# Altium schematic symbol library SchLib_PDB_V1.SCHLIB: 63 symbols
Pins are listed as number, name and electrical type; pins without a type are passive.

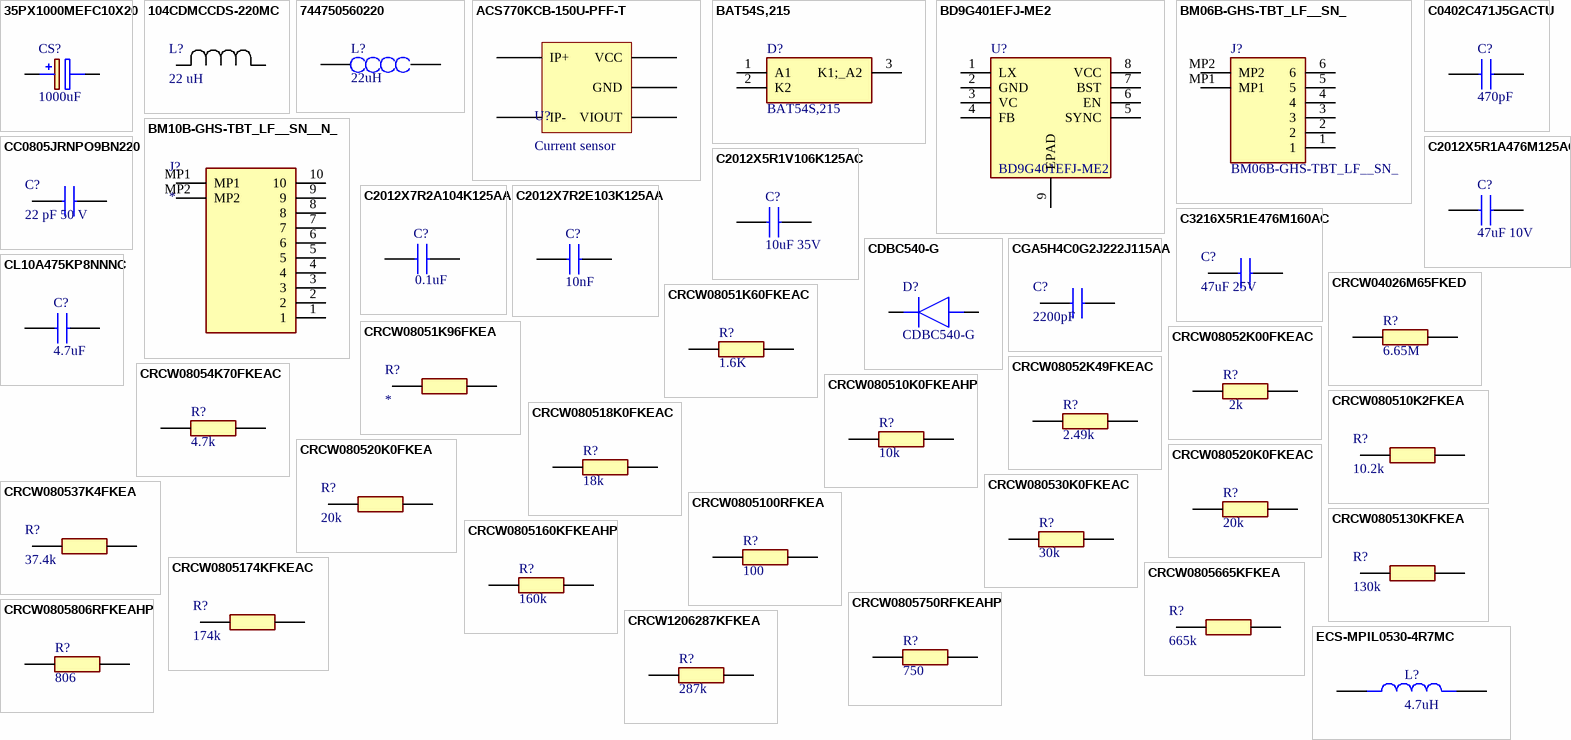
[diagram p0: symbols 35PX1000MEFC10X20 to ECS-MPIL0530-4R7MC]

## 35PX1000MEFC10X20
designator CS?, comment 1000uF
Capacitor Polarised; Manufacturer_Name: Rubycon; Manufacturer_Part_Number: 35PX1000MEFC10X20; Datasheet Link: https://www.rubycon.co.jp/wp-content/uploads/catalog-aluminum/PX.pdf; Height: 21.5mm; Mouser Part Number: 232-35PX1000MEFC10X2; Mouser Price/Stock: https://www.mouser.co.uk/ProductDetail/Rubycon/35PX1000MEFC10X20?qs=T3oQrply3y86%2F1qnNfO%252BAA%3D%3D; Arrow Part Number: 35PX1000MEFC10X20; Arrow Price/Stock: https://www.arrow.com/en/products/35px1000mefc10x20/rubycon?region=nac
footprint CAPPRD500W60D1025H2150
pins: 1 +, 2 -

## 104CDMCCDS-220MC
designator L?, comment 22 uH
Bobine de 22 uH, 5 A; Manufacturer_Name: Sumida; Manufacturer_Part_Number: 104CDMCCDS-220MC; Type: Fixed Inductors; Copyright: Copyright (C) 2025 Ultra Librarian. All rights reserved.; ComponentLink1Description: Datasheet; ComponentLink1URL: https://products.sumida.com/products/pdf/104CDMCCDS.pdf
footprint IND_104CDMCCDS_SUM
pins: 1, 2

## 744750560220
designator L?, comment 22uH
Inductor 22mH; Manufacturer_Name: Wurth Elektronik; Manufacturer_Part_Number: 744750560220; Datasheet Link: https://componentsearchengine.com/Datasheets/2/744750560220.pdf; Height: 15.8mm; Mouser Part Number: 710-744750560220; Mouser Price/Stock: https://www.mouser.co.uk/ProductDetail/Wurth-Elektronik/744750560220?qs=HXx4m3XcTe10itAwD7FiZQ%3D%3D; ClassName: PowerModul
footprint 744750560220
pins: 1, 2

## ACS770KCB-150U-PFF-T
designator U?, comment Current sensor
150 A , Unidirectional; ComponentLink1Description: Datasheet; ComponentLink1URL: https://www.allegromicro.com/~/media/Files/Datasheets/ACS770-Datasheet.ashx
footprint Model Name (Footprint not found)
footprint ACS770xCB-PFF - Sans Via-in-Pad (Current sensor)
pins: 1 VCC, 2 GND, 3 VIOUT, 4 IP+, 5 IP-

## BAT54S,215
designator D?
Schottky Diode; Manufacturer_Name: Nexperia; Datasheet Link: https://assets.nexperia.com/documents/data-sheet/BAT54S.pdf; Height: 1.1mm; Manufacturer_Part_Number: BAT54S,215; Mouser Part Number: 771-BAT54S-T/R; Mouser Price/Stock: https://www.mouser.co.uk/ProductDetail/Nexperia/BAT54S215?qs=me8TqzrmIYVOaf3j7zH0Wg%3D%3D; Arrow Part Number: BAT54S,215; Arrow Price/Stock: https://www.arrow.com/en/products/bat54s215/nexperia?utm_currency=USD&region=europe
footprint SOT95P230X110-3N
pins: 1 A1, 2 K2, 3 K1;_A2

## BD9G401EFJ-ME2
designator U?
Buck converter; Manufacturer_Name: ROHM Semiconductor; Datasheet Link: https://componentsearchengine.com/Datasheets/1/BD9G401EFJ-ME2.pdf; Height: 1mm; Manufacturer_Part_Number: BD9G401EFJ-ME2; Mouser Part Number: 755-BD9G401EFJ-ME2; Mouser Price/Stock: https://www.mouser.co.uk/ProductDetail/ROHM-Semiconductor/BD9G401EFJ-ME2?qs=HXFqYaX1Q2yXryPBxafgDg%3D%3D; ClassName: PowerModul
footprint SOIC127P600X100-9N
pins: 1 LX, 2 GND, 3 VC, 4 FB, 5 SYNC, 6 EN, 7 BST, 8 VCC, 9 EPAD

## BM06B-GHS-TBT_LF__SN_
designator J?
Connector; Manufacturer_Name: JST (JAPAN SOLDERLESS TERMINALS); Manufacturer_Part_Number: BM06B-GHS-TBT(LF)(SN); Datasheet Link: https://datasheet.lcsc.com/szlcsc/2004111131_JST-Sales-America-BM06B-GHS-TBT-LF-SN_C495534.pdf; Height: 4.05mm; Mouser Part Number: 306-BM06BGHSTBTLFSNN; Mouser Price/Stock: https://www.mouser.co.uk/ProductDetail/JST-Commercial/BM06B-GHS-TBTLFSN?qs=cdbOS8ANM9CObKjnhD04mw%3D%3D
footprint BM06BGHSTBTLFSN
pins: 1, 2, 3, 4, 5, 6, MP1, MP2

## BM10B-GHS-TBT_LF__SN__N_
designator J?
Connector; Manufacturer_Name: JST (JAPAN SOLDERLESS TERMINALS); Manufacturer_Part_Number: BM10B-GHS-TBT(LF)(SN)(N); Datasheet Link: http://www.jst-mfg.com/product/pdf/eng/eGH.pdf; Height: 4.05mm; Arrow Part Number: BM10B-GHS-TBT(LF)(SN)(N); Arrow Price/Stock: https://www.arrow.com/en/products/bm10b-ghs-tbt-lf-sn-n/jst-manufacturing?utm_currency=USD&region=europe
footprint BM10BGHSTBTLFSNN
pins: 1, 2, 3, 4, 5, 6, 7, 8, 9, 10, MP1, MP2

## C0402C471J5GACTU
designator C?, comment 470pF
Capacitor; Manufacturer_Name: KEMET; Manufacturer_Part_Number: C0402C471J5GACTU; Datasheet Link: https://content.kemet.com/datasheets/KEM_C1002_X7R_SMD.pdf; Height: 0.55mm; Mouser Part Number: 80-C0402C471J5G; Mouser Price/Stock: https://www.mouser.com/Search/Refine.aspx?Keyword=80-C0402C471J5G; Arrow Part Number: C0402C471J5GACTU; Arrow Price/Stock: https://www.arrow.com/en/products/c0402c471j5gactu/kemet-corporation
footprint C0402C104J4RACTU
pins: 1, 2

## C2012X5R1A476M125AC
designator C?, comment 47uF 10V
Capacitor; Manufacturer_Name: TDK; Manufacturer_Part_Number: C2012X5R1A476M125AC; Datasheet Link: https://product.tdk.com/info/en/catalog/datasheets/mlcc_commercial_midvoltage_en.pdf; Height: 1.45mm; Mouser Part Number: 810-C2012X5R1A476M; Mouser Price/Stock: https://www.mouser.co.uk/ProductDetail/TDK/C2012X5R1A476M125AC?qs=LcTL%2F5vFEzGyFw5hxP%2FMXw%3D%3D; Arrow Part Number: C2012X5R1A476M125AC; Arrow Price/Stock: https://www.arrow.com/en/products/c2012x5r1a476m125ac/tdk?region=nac; ClassName: PowerModul
footprint CAPC2012X145N
footprint CAPC2012X145N
pins: 1, 2

## C2012X5R1V106K125AC
designator C?, comment 10uF 35V
Capacitor; Manufacturer_Name: TDK; Manufacturer_Part_Number: C2012X5R1V106K125AC; Datasheet Link: https://product.tdk.com/info/en/catalog/datasheets/mlcc_commercial_midvoltage_en.pdf; Height: 1.45mm; Mouser Part Number: 810-C2012X5R1V106K1C; Mouser Price/Stock: https://www.mouser.co.uk/ProductDetail/TDK/C2012X5R1V106K125AC?qs=6JAMGB%252BEdkwcwonKbQLeCg%3D%3D; Arrow Part Number: C2012X5R1V106K125AC; Arrow Price/Stock: https://www.arrow.com/en/products/c2012x5r1v106k125ac/tdk?region=europe; ClassName: PowerModul
footprint CAPC2012X145N
pins: 1, 2

## C2012X7R2A104K125AA
designator C?, comment 0.1uF
Capacitor; Manufacturer_Name: TDK; Manufacturer_Part_Number: C2012X7R2A104K125AA; Datasheet Link: https://product.tdk.com/info/en/catalog/datasheets/mlcc_commercial_midvoltage_en.pdf; Height: 1.45mm; Mouser Part Number: 810-C2012X7R2A104K; Mouser Price/Stock: https://www.mouser.co.uk/ProductDetail/TDK/C2012X7R2A104K125AA?qs=NRhsANhppD9J0ZsT2%2Fo%2F7Q%3D%3D; Arrow Part Number: C2012X7R2A104K125AA; Arrow Price/Stock: https://www.arrow.com/en/products/c2012x7r2a104k125aa/tdk?region=europe; ClassName: PowerModul
footprint CAPC2012X145N
pins: 1, 2

## C2012X7R2E103K125AA
designator C?, comment 10nF
Capacitor; Manufacturer_Name: TDK; Manufacturer_Part_Number: C2012X7R2E103K125AA; Datasheet Link: https://product.tdk.com/info/en/catalog/datasheets/mlcc_commercial_midvoltage_en.pdf; Height: 1.45mm; Mouser Part Number: 810-C2012X7R2E103K; Mouser Price/Stock: https://www.mouser.co.uk/ProductDetail/TDK/C2012X7R2E103K125AA?qs=NRhsANhppD%2FvPjIeAxskbg%3D%3D; Arrow Part Number: C2012X7R2E103K125AA; Arrow Price/Stock: https://www.arrow.com/en/products/c2012x7r2e103k125aa/tdk?region=nac; ClassName: PowerModul
footprint CAPC2012X145N
pins: 1, 2

## C3216X5R1E476M160AC
designator C?, comment 47uF 25V
Capacitor 47 uF; Manufacturer_Name: TDK; Manufacturer_Part_Number: C3216X5R1E476M160AC.; Datasheet Link: https://media.digikey.com/pdf/Data%20Sheets/TDK%20PDFs/mlcc_commercial_general_Rev2018.pdf; Height: 1.8mm; Mouser Part Number: N/A; Mouser Price/Stock: https://www.mouser.com/Search/Refine.aspx?Keyword=N%2FA
footprint CAPC3216X180N (Footprint not found)
pins: 1, 2

## CC0805JRNPO9BN220
designator C?, comment 22 pF 50 V
Capacitor; Manufacturer_Name: YAGEO; Manufacturer_Part_Number: CC0805JRNPO9BN220; Datasheet Link: https://componentsearchengine.com/Datasheets/2/CC0805JRNPO9BN220.pdf; Height: 0.7mm; Mouser Part Number: 603-CC805JRNPO9BN220; Mouser Price/Stock: https://www.mouser.co.uk/ProductDetail/YAGEO/CC0805JRNPO9BN220?qs=vTakOoo5QyK71b5vkghGmg%3D%3D
footprint CAPC2012X70N (Footprint not found)
pins: 1, 2

## CDBC540-G
designator D?
Diode; Manufacturer_Name: Comchip Technology; Datasheet Link: https://eu.mouser.com/datasheet/2/80/CDBC520-HF_Thru195340._CDBC5100-HF_RevB-1480991.pdf; Height: 2.9mm; Manufacturer_Part_Number: CDBC540-G; Mouser Part Number: 750-CDBC540-G; Mouser Price/Stock: https://www.mouser.co.uk/ProductDetail/Comchip-Technology/CDBC540-G?qs=tw%252BuQ%2FB6PO2ExpPYY64Vzw%3D%3D; Arrow Part Number: CDBC540-G; Arrow Price/Stock: https://www.arrow.com/en/products/cdbc540-g/comchip-technology?utm_currency=USD&region=nac
footprint DIOM8059X290N
pins: 1 K, 2 A

## CGA5H4C0G2J222J115AA
designator C?, comment 2200pF
Capacitor 2200pF 630V; Manufacturer_Name: TDK; Manufacturer_Part_Number: CGA5H4C0G2J222J115AA; Datasheet Link: http://docs-europe.electrocomponents.com/webdocs/14e9/0900766b814e9125.pdf; Height: 1.3mm
footprint CAPC3216X130N
pins: 1, 2

## CL10A475KP8NNNC
designator C?, comment 4.7uF
Capacitor; Manufacturer_Name: SAMSUNG; Manufacturer_Part_Number: CL10A475KP8NNNC; Datasheet Link: https://www.arrow.com/en/products/cl10a475kp8nnnc/samsung-electro-mechanics; Height: 0.9mm; Mouser Part Number: 187-CL10A475KP8NNNC; Mouser Price/Stock: https://www.mouser.co.uk/ProductDetail/Samsung-Electro-Mechanics/CL10A475KP8NNNC?qs=hqM3L16%252BxlfQRmkWsZz5vA%3D%3D; Arrow Part Number: CL10A475KP8NNNC; Arrow Price/Stock: https://www.arrow.com/en/products/cl10a475kp8nnnc/samsung-electro-mechanics?region=nac
footprint CAPC1608X90N
pins: 1, 2

## CRCW04026M65FKED
designator R?, comment 6.65M
Resistor; Manufacturer_Name: Vishay; Manufacturer_Part_Number: CRCW04026M65FKED; Datasheet Link: http://www.vishay.com/docs/20035/dcrcwe3.pdf; Height: 0.4mm
footprint RESC1005X40N
pins: 1, 2

## CRCW08051K60FKEAC
designator R?, comment 1.6K
Resistor; Manufacturer_Name: Vishay; Manufacturer_Part_Number: CRCW08051K60FKEAC; Datasheet Link: https://www.arrow.com/en/products/crcw08051k60fkeac/vishay; Height: 0.6mm; Mouser Part Number: 71-CRCW08051K60FKEAC; Mouser Price/Stock: https://www.mouser.co.uk/ProductDetail/Vishay-Dale/CRCW08051K60FKEAC?qs=E3Y5ESvWgWMJaZYHQus8LQ%3D%3D; Arrow Part Number: CRCW08051K60FKEAC; Arrow Price/Stock: https://www.arrow.com/en/products/crcw08051k60fkeac/vishay
footprint RESC2012X60N
pins: 1, 2

## CRCW08051K96FKEA
designator R?
Resistor; Manufacturer_Name: Vishay; Manufacturer_Part_Number: CRCW08051K96FKEA; Datasheet Link: http://www.vishay.com/docs/20035/dcrcwe3.pdf; Height: 0.5mm; Mouser Part Number: 71-CRCW08051K96FKEA; Mouser Price/Stock: https://www.mouser.co.uk/ProductDetail/Vishay-Dale/CRCW08051K96FKEA?qs=1CkV0QOCgMpA%2F6GTgXIN%2Fg%3D%3D; Arrow Part Number: CRCW08051K96FKEA; Arrow Price/Stock: https://www.arrow.com/en/products/crcw08051k96fkea/vishay?region=nac
footprint RESC2012X50N
pins: 1, 2

## CRCW08052K00FKEAC
designator R?, comment 2k
Resistor; Manufacturer_Name: Vishay; Manufacturer_Part_Number: CRCW08052K00FKEAC; Datasheet Link: http://www.vishay.com/docs/28773/crcwce3.pdf; Height: 0.6mm; Mouser Part Number: 71-CRCW08052K00FKEAC; Mouser Price/Stock: https://www.mouser.co.uk/ProductDetail/Vishay-Dale/CRCW08052K00FKEAC?qs=E3Y5ESvWgWP6floxGsbShA%3D%3D; Arrow Part Number: CRCW08052K00FKEAC; Arrow Price/Stock: https://www.arrow.com/en/products/crcw08052k00fkeac/vishay?utm_currency=USD&region=nac
footprint RESC2012X60N
pins: 1, 2

## CRCW08052K49FKEAC
designator R?, comment 2.49k
Resistor; Manufacturer_Name: Vishay; Manufacturer_Part_Number: CRCW08052K49FKEAC; Datasheet Link: https://componentsearchengine.com/Datasheets/1/CRCW08052K49FKEAC.pdf; Height: 0.5mm; Mouser Part Number: 71-CRCW08052K49FKEAC; Mouser Price/Stock: https://www.mouser.com/Search/Refine.aspx?Keyword=71-CRCW08052K49FKEAC; Arrow Part Number: CRCW08052K49FKEAC; Arrow Price/Stock: https://www.arrow.com/en/products/crcw08052k49fkeac/vishay
footprint RESC2012X50N
pins: 1, 2

## CRCW08054K70FKEAC
designator R?, comment 4.7k
Resistor; Manufacturer_Name: Vishay; Manufacturer_Part_Number: CRCW08054K70FKEAC; Datasheet Link: https://mouser.componentsearchengine.com/Datasheets/1/CRCW08054K70FKEAC.pdf; Height: 0.6mm; Mouser Part Number: 71-CRCW08054K70FKEAC; Mouser Price/Stock: https://www.mouser.co.uk/ProductDetail/Vishay-Dale/CRCW08054K70FKEAC?qs=E3Y5ESvWgWOQAAVugewEHA%3D%3D; Arrow Part Number: CRCW08054K70FKEAC; Arrow Price/Stock: https://www.arrow.com/en/products/crcw08054k70fkeac/vishay?region=nac; ClassName: PowerModul
footprint RESC2012X60N
pins: 1, 2

## CRCW080510K0FKEAHP
designator R?, comment 10k
Resistor; Manufacturer_Name: Vishay; Manufacturer_Part_Number: CRCW080510K0FKEAHP; Datasheet Link: https://componentsearchengine.com/Datasheets/1/CRCW08051R00FKEAHP.pdf; Height: 0.6mm; Mouser Part Number: 71-CRCW080510K0FKEAH; Mouser Price/Stock: https://www.mouser.co.uk/ProductDetail/Vishay-Dale/CRCW080510K0FKEAHP?qs=FlFvgi4rxBybVOW6oiRQjA%3D%3D; Arrow Part Number: CRCW080510K0FKEAHP; Arrow Price/Stock: https://www.arrow.com/en/products/crcw080510k0fkeahp/vishay?utm_currency=USD&region=europe; ClassName: PowerModul
footprint RESC2012X60N
pins: 1, 2

## CRCW080510K2FKEA
designator R?, comment 10.2k
Resistor; Manufacturer_Name: Vishay; Manufacturer_Part_Number: CRCW080510K2FKEA; Datasheet Link: http://www.vishay.com/docs/20035/dcrcwe3.pdf; Height: 0.5mm; Mouser Part Number: 71-CRCW0805-10.2K-E3; Mouser Price/Stock: https://www.mouser.co.uk/ProductDetail/Vishay-Dale/CRCW080510K2FKEA?qs=LOX6nxTstibTXRK16X5NEQ%3D%3D; Arrow Part Number: CRCW080510K2FKEA; Arrow Price/Stock: https://www.arrow.com/en/products/crcw080510k2fkea/vishay?region=nac
footprint RESC2012X50N
pins: 1, 2

## CRCW080518K0FKEAC
designator R?, comment 18k
Resistor; Manufacturer_Name: Vishay; Manufacturer_Part_Number: CRCW080518K0FKEAC; Datasheet Link: https://www.arrow.com/en/products/crcw080518k0fkeac/vishay?region=nac; Height: 0.5mm; Mouser Part Number: 71-CRCW080518K0FKEAC; Mouser Price/Stock: https://www.mouser.co.uk/ProductDetail/Vishay-Dale/CRCW080518K0FKEAC?qs=E3Y5ESvWgWPSwNx6fNHotQ%3D%3D; Arrow Part Number: CRCW080518K0FKEAC; Arrow Price/Stock: https://www.arrow.com/en/products/crcw080518k0fkeac/vishay?region=nac
footprint RESC2012X50N
pins: 1, 2

## CRCW080520K0FKEA
designator R?, comment 20k
Resistor; Manufacturer_Name: Vishay; Manufacturer_Part_Number: CRCW080520K0FKEA; Datasheet Link: http://www.vishay.com/docs/20035/dcrcwe3.pdf; Height: 0.5mm; Mouser Part Number: 71-CRCW0805-20K-E3; Mouser Price/Stock: https://www.mouser.co.uk/ProductDetail/Vishay-Dale/CRCW080520K0FKEA?qs=t6Mf8e9K%2Ful9pWSqXxFD1w%3D%3D; Arrow Part Number: CRCW080520K0FKEA; Arrow Price/Stock: https://www.arrow.com/en/products/crcw080520k0fkea/vishay
footprint RESC2012X50N
pins: 1, 2

## CRCW080520K0FKEAC
designator R?, comment 20k
Resistor; Manufacturer_Name: Vishay; Manufacturer_Part_Number: CRCW080520K0FKEAC; Datasheet Link: https://mouser.componentsearchengine.com/Datasheets/1/CRCW080520K0FKEAC.pdf; Height: 0.6mm; Mouser Part Number: 71-CRCW080520K0FKEAC; Mouser Price/Stock: https://www.mouser.co.uk/ProductDetail/Vishay-Dale/CRCW080520K0FKEAC?qs=E3Y5ESvWgWNXVYIsIc630g%3D%3D; Arrow Part Number: CRCW080520K0FKEAC; Arrow Price/Stock: https://www.arrow.com/en/products/crcw080520k0fkeac/vishay
footprint RESC2012X60N
pins: 1, 2

## CRCW080530K0FKEAC
designator R?, comment 30k
Resistor; Manufacturer_Name: Vishay; Manufacturer_Part_Number: CRCW080530K0FKEAC; Datasheet Link: https://mouser.componentsearchengine.com/Datasheets/1/CRCW080530K0FKEAC.pdf; Height: 0.6mm; Mouser Part Number: 71-CRCW080530K0FKEAC; Mouser Price/Stock: https://www.mouser.co.uk/ProductDetail/Vishay-Dale/CRCW080530K0FKEAC?qs=E3Y5ESvWgWMYq9MgiyaMow%3D%3D; Arrow Part Number: CRCW080530K0FKEAC; Arrow Price/Stock: https://www.arrow.com/en/products/crcw080530k0fkeac/vishay?region=nac; ClassName: PowerModul
footprint RESC2012X60N
pins: 1, 2

## CRCW080537K4FKEA
designator R?, comment 37.4k
Resistor; Manufacturer_Name: Vishay; Manufacturer_Part_Number: CRCW080537K4FKEA; Datasheet Link: http://www.vishay.com/docs/20035/dcrcwe3.pdf; Height: 0.5mm; Mouser Part Number: 71-CRCW0805-37.4K-E3; Mouser Price/Stock: https://www.mouser.co.uk/ProductDetail/Vishay-Dale/CRCW080537K4FKEA?qs=ofC1ORbyWJfwcxfoRR0MKw%3D%3D
footprint RESC2012X50N
pins: 1, 2

## CRCW0805100RFKEA
designator R?, comment 100
Resistor; Manufacturer_Name: Vishay; Manufacturer_Part_Number: CRCW0805100RFKEA; Datasheet Link: http://www.vishay.com/docs/20035/dcrcwe3.pdf; Height: 0.5mm; Mouser Part Number: 71-CRCW0805-100-E3; Mouser Price/Stock: https://www.mouser.co.uk/ProductDetail/Vishay-Dale/CRCW0805100RFKEA?qs=LOX6nxTstiYDPDKmuLyNLw%3D%3D; Arrow Part Number: CRCW0805100RFKEA; Arrow Price/Stock: https://www.arrow.com/en/products/crcw0805100rfkea/vishay?utm_currency=USD&region=nac
footprint RESC2012X50N
pins: 1, 2

## CRCW0805130KFKEA
designator R?, comment 130k
Resistor; Manufacturer_Name: Vishay; Manufacturer_Part_Number: CRCW0805130KFKEA; Datasheet Link: http://www.vishay.com/docs/20035/dcrcwe3.pdf; Height: 0.5mm; Mouser Part Number: 71-CRCW0805-130K-E3; Mouser Price/Stock: https://www.mouser.co.uk/ProductDetail/Vishay-Dale/CRCW0805130KFKEA?qs=0y7Riw94L4iHKWUxGOctIA%3D%3D; Arrow Part Number: CRCW0805130KFKEA; Arrow Price/Stock: https://www.arrow.com/en/products/crcw0805130kfkea/vishay
footprint RESC2012X50N
pins: 1, 2

## CRCW0805160KFKEAHP
designator R?, comment 160k
Resistor; Manufacturer_Name: Vishay; Manufacturer_Part_Number: CRCW0805160KFKEAHP; Datasheet Link: https://componentsearchengine.com/Datasheets/1/CRCW08051R00FKEAHP.pdf; Height: 0.6mm; ClassName: PowerModul
footprint RESC2012X60N
pins: 1, 2

## CRCW0805174KFKEAC
designator R?, comment 174k
Resistor; Manufacturer_Name: Vishay; Manufacturer_Part_Number: CRCW0805174KFKEAC; Datasheet Link: https://www.vishay.com/docs/28773/crcwce3.pdf; Height: 0.6mm; Mouser Part Number: 71-CRCW0805174KFKEAC; Mouser Price/Stock: https://www.mouser.co.uk/ProductDetail/Vishay-Dale/CRCW0805174KFKEAC?qs=E3Y5ESvWgWPIzoNrwC7WHw%3D%3D
footprint RESC2012X60N
pins: 1, 2

## CRCW0805665KFKEA
designator R?, comment 665k
Resistor; Manufacturer_Name: Vishay; Manufacturer_Part_Number: CRCW0805665KFKEA; Datasheet Link: http://www.vishay.com/docs/20035/dcrcwe3.pdf; Height: 0.5mm
footprint RESC2012X50N
pins: 1, 2

## CRCW0805750RFKEAHP
designator R?, comment 750
Resistor; Manufacturer_Name: Vishay; Manufacturer_Part_Number: CRCW0805750RFKEAHP; Datasheet Link: https://componentsearchengine.com/Datasheets/1/CRCW08051R00FKEAHP.pdf; Height: 0.6mm; Mouser Part Number: 71-CRCW0805750RFKEAH; Mouser Price/Stock: https://www.mouser.co.uk/ProductDetail/Vishay-Dale/CRCW0805750RFKEAHP?qs=40TFAHZMFvdp5ouInDDfaw%3D%3D; Arrow Part Number: CRCW0805750RFKEAHP; Arrow Price/Stock: https://www.arrow.com/en/products/crcw0805750rfkeahp/vishay?region=nac
footprint RESC2012X60N
pins: 1, 2

## CRCW0805806RFKEAHP
designator R?, comment 806
Resistor; Manufacturer_Name: Vishay; Manufacturer_Part_Number: CRCW0805806RFKEAHP; Datasheet Link: https://componentsearchengine.com/Datasheets/1/CRCW08051R00FKEAHP.pdf; Height: 0.6mm
footprint RESC2012X60N
pins: 1, 2

## CRCW1206287KFKEA
designator R?, comment 287k
Resistor; Manufacturer_Name: Vishay; Manufacturer_Part_Number: CRCW1206287KFKEA; Height: 0.6mm; Mouser Part Number: 71-CRCW1206-287K-E3; Mouser Price/Stock: https://www.mouser.com/Search/Refine.aspx?Keyword=71-CRCW1206-287K-E3
footprint RESC3216X60N
pins: 1, 2

## ECS-MPIL0530-4R7MC
designator L?, comment 4.7uH
4.7 µH Shielded Molded Inductor 5 A 60mOhm Max Nonstandard -; MF: ECS Inc.; MP: ECS-MPIL0530-4R7MC; SnapEDA_Link: https://www.snapeda.com/parts/ECS-MPIL0530-4R7MC/ECS/view-part/?ref=snap; Package: ECS-MPIL0530-0-2 ECS; Value: *; Check_prices: https://www.snapeda.com/parts/ECS-MPIL0530-4R7MC/ECS/view-part/?ref=eda
footprint IND_ECS-MPIL0530-4R7MC (Footprint not found)
pins: 1, 2

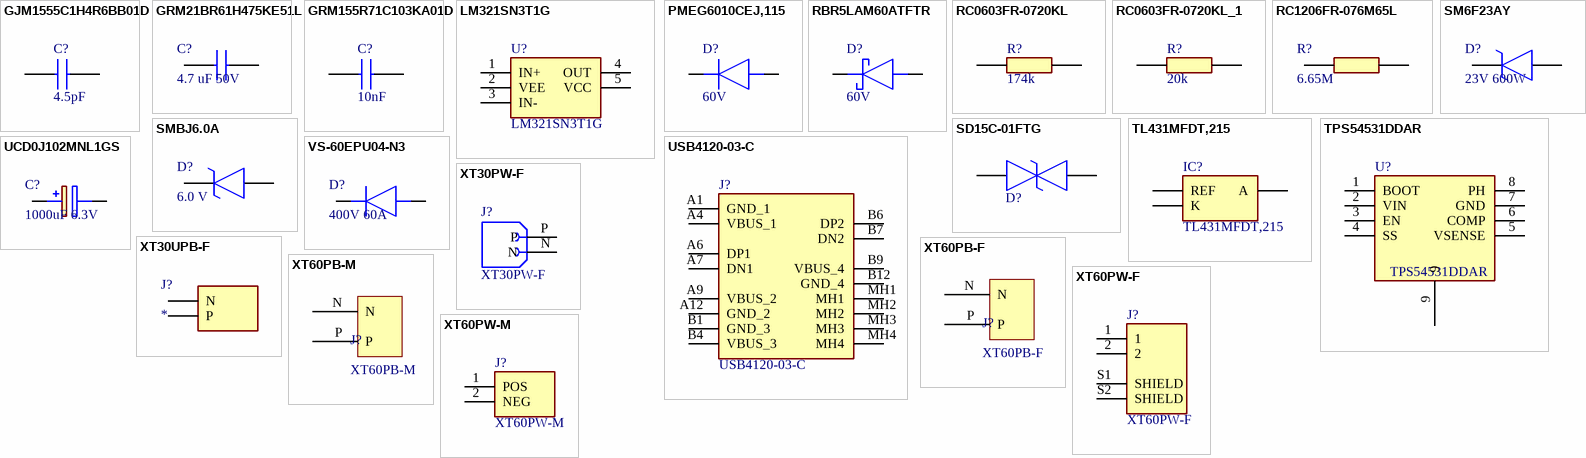
[diagram p1: symbols GJM1555C1H4R6BB01D to XT60PW-M]

## GJM1555C1H4R6BB01D
designator C?, comment 4.5pF
Capacitor; Manufacturer_Name: Murata Electronics; Manufacturer_Part_Number: GJM1555C1H4R6BB01D; Datasheet Link: https://search.murata.co.jp/Ceramy/image/img/A01X/G101/ENG/GJM1555C1H4R6BB01-01A.pdf; Height: 0.55mm
footprint CAPC1005X55N
pins: 1, 2

## GRM21BR61H475KE51L
designator C?, comment 4.7 uF 50V
Capacitor; Manufacturer_Name: Murata Electronics; Manufacturer_Part_Number: GRM21BR61H475KE51L; Datasheet Link: https://search.murata.co.jp/Ceramy/image/img/A01X/G101/ENG/GRM21BR61H475KE51-01A.pdf; Height: 1.45mm; Mouser Part Number: 81-GRM21BR61H475KE1L; Mouser Price/Stock: https://www.mouser.co.uk/ProductDetail/Murata-Electronics/GRM21BR61H475KE51L?qs=eeBpzGFlv%252B%252BOtLzDC1PY6Q%3D%3D; Arrow Part Number: GRM21BR61H475KE51L; Arrow Price/Stock: https://www.arrow.com/en/products/grm21br61h475ke51l/murata-manufacturing?region=nac
footprint CAPC2012X145N
pins: 1, 2

## GRM155R71C103KA01D
designator C?, comment 10nF
Capacitor; Manufacturer_Name: Murata Electronics; Manufacturer_Part_Number: GRM155R71C103KA01D; Datasheet Link: https://search.murata.co.jp/Ceramy/image/img/A01X/G101/ENG/GRM155R71C103KA01-01A.pdf; Height: 0.7mm; Mouser Part Number: 81-GRM36X103K16; Mouser Price/Stock: https://www.mouser.co.uk/ProductDetail/Murata-Electronics/GRM155R71C103KA01D?qs=8YPuuxuUzMI%252B9QLnzeLwhQ%3D%3D; Arrow Part Number: GRM155R71C103KA01D; Arrow Price/Stock: https://www.arrow.com/en/products/grm155r71c103ka01d/murata-manufacturing?utm_currency=USD&region=nac
footprint CAPC1005X70N
pins: 1, 2

## LM321SN3T1G
designator U?
Integrated Circuit; Manufacturer_Name: onsemi; Datasheet Link: https://www.onsemi.com/pub/Collateral/LM321-D.PDF; Height: 1.1mm; Manufacturer_Part_Number: LM321SN3T1G; Mouser Part Number: 863-LM321SN3T1G; Mouser Price/Stock: https://www.mouser.co.uk/ProductDetail/onsemi/LM321SN3T1G?qs=slMPpRTKD5qNVsCzBsHVZA%3D%3D; Arrow Part Number: LM321SN3T1G; Arrow Price/Stock: https://www.arrow.com/en/products/lm321sn3t1g/on-semiconductor?utm_currency=USD&region=nac
footprint SOT95P275X110-5N
pins: 1 IN+, 2 VEE, 3 IN-, 4 OUT, 5 VCC

## PMEG6010CEJ,115
designator D?, comment 60V
Diode; Manufacturer_Name: Nexperia; Manufacturer_Part_Number: PMEG6010CEJ,115; Datasheet Link: https://assets.nexperia.com/documents/data-sheet/PMEG6010CEH_PMEG6010CEJ.pdf; Height: 0.8mm; Mouser Part Number: 771-PMEG6010CEJ-T/R; Mouser Price/Stock: https://www.mouser.co.uk/ProductDetail/Nexperia/PMEG6010CEJ115?qs=LOCUfHb8d9sJWWkUvN790w%3D%3D; Arrow Part Number: PMEG6010CEJ,115; Arrow Price/Stock: https://www.arrow.com/en/products/pmeg6010cej115/nexperia?region=nac
footprint SODFL2512X80N
pins: 1 K, 2 A

## RBR5LAM60ATFTR
designator D?, comment 60V
Schottky Diode; Manufacturer_Name: ROHM Semiconductor; Manufacturer_Part_Number: RBR5LAM60ATFTR; Datasheet Link: https://fscdn.rohm.com/en/products/databook/datasheet/discrete/diode/schottky_barrier/rbr5lam60atftr-e.pdf; Height: 1.05mm; Mouser Part Number: 755-RBR5LAM60ATFTR; Mouser Price/Stock: https://www.mouser.co.uk/ProductDetail/ROHM-Semiconductor/RBR5LAM60ATFTR?qs=4v%252BiZTmLVHGKJkO8tMW4zA%3D%3D; ClassName: PowerModul
footprint SODFL4725X105N
pins: 1 K, 2 A

## RC0603FR-0720KL
designator R?, comment 174k
Resistor; Manufacturer_Name: KEMET; Manufacturer_Part_Number: RC0603FR-0720KL; Datasheet Link: http://www.yageo.com/documents/recent/PYu-RC0603_51_RoHS_L_v5.pdf; Height: 0.55mm; Mouser Part Number: 603-RC0603FR-0720KL; Mouser Price/Stock: https://www.mouser.co.uk/ProductDetail/YAGEO/RC0603FR-0720KL?qs=VU8sRB4EgwCsxfrjtEIKPQ%3D%3D; Arrow Part Number: RC0603FR-0720KL; Arrow Price/Stock: https://www.arrow.com/en/products/rc0603fr-0720kl/yageo
footprint RESC1608X55N
pins: 1, 2

## RC0603FR-0720KL_1
designator R?, comment 20k
Resistor; Manufacturer_Name: KEMET; Manufacturer_Part_Number: RC0603FR-0720KL; Datasheet Link: http://www.yageo.com/documents/recent/PYu-RC0603_51_RoHS_L_v5.pdf; Height: 0.55mm; Mouser Part Number: 603-RC0603FR-0720KL; Mouser Price/Stock: https://www.mouser.co.uk/ProductDetail/YAGEO/RC0603FR-0720KL?qs=VU8sRB4EgwCsxfrjtEIKPQ%3D%3D; Arrow Part Number: RC0603FR-0720KL; Arrow Price/Stock: https://www.arrow.com/en/products/rc0603fr-0720kl/yageo
footprint RESC1608X55N
pins: 1, 2

## RC1206FR-076M65L
designator R?, comment 6.65M
Resistor; Manufacturer_Name: YAGEO; Manufacturer_Part_Number: RC1206FR-076M65L; Datasheet Link: https://www.mouser.com/datasheet/2/447/PYu-RC_Group_51_RoHS_L_9-1314892.pdf; Height: 0.65mm
footprint RESC3116X65N (Footprint not found)
pins: 1, 2

## SD15C-01FTG
designator D?  (value not drawn)
TVS Diode (Bi-directional); Manufacturer_Name: LITTELFUSE; Datasheet Link: https://www.arrow.com/en/products/sd15c-01ftg/littelfuse; Height: 1.14mm; Manufacturer_Part_Number: SD15C-01FTG; Mouser Part Number: 576-SD15C-01FTG; Mouser Price/Stock: https://www.mouser.co.uk/ProductDetail/Littelfuse/SD15C-01FTG?qs=4zl93aaztU8pjSvpxpJP6g%3D%3D; Arrow Part Number: SD15C-01FTG; Arrow Price/Stock: https://www.arrow.com/en/products/sd15c-01ftg/littelfuse?region=nac
footprint SD15C01FTG
pins: 1, 2

## SM6F23AY
designator D?, comment 23V 600W
TVS Diode (Uni-directional); Manufacturer_Name: STMicroelectronics; Manufacturer_Part_Number: SM6F23AY; Datasheet Link: https://www.st.com/resource/en/datasheet/sm6f10ay.pdf; Height: 1.03mm; Mouser Part Number: 511-SM6F23AY; Mouser Price/Stock: https://www.mouser.co.uk/ProductDetail/STMicroelectronics/SM6F23AY?qs=BJlw7L4Cy79cZKdhit2Bog%3D%3D
footprint SM6F22AY
pins: 1 K, 2 A

## SMBJ6.0A
designator D?, comment 6.0 V
TVS Diode (Uni-directional); Manufacturer_Name: STMicroelectronics; Manufacturer_Part_Number: SMBJ6.0A; Datasheet Link: https://www.st.com/resource/en/datasheet/smbj12a.pdf; Height: 2.45mm
footprint SMBJ12A
pins: 1 K, 2 A

## TL431MFDT,215
designator IC?
Integrated Circuit; Manufacturer_Name: Nexperia; Datasheet Link: https://assets.nexperia.com/documents/data-sheet/TL431_FAM.pdf; Height: 1.1mm; Manufacturer_Part_Number: TL431MFDT,215; Mouser Part Number: 771-TL431MFDT215; Mouser Price/Stock: https://www.mouser.co.uk/ProductDetail/Nexperia/TL431MFDT215?qs=A1cBxND5mHKvFzVl3lBdcQ%3D%3D; Arrow Part Number: TL431MFDT,215; Arrow Price/Stock: https://www.arrow.com/en/products/tl431mfdt215/nexperia?utm_currency=USD&region=nac
footprint SOT95P230X110-3N
pins: 1 REF, 2 K, 3 A

## TPS54531DDAR
designator U?
Power Supply; Manufacturer_Name: Texas Instruments; Datasheet Link: http://www.ti.com/lit/gpn/tps54531; Height: 1.7mm; Manufacturer_Part_Number: TPS54531DDAR; Mouser Part Number: 595-TPS54531DDAR; Mouser Price/Stock: https://www.mouser.co.uk/ProductDetail/Texas-Instruments/TPS54531DDAR?qs=jA5Ki6243onykODzUePbag%3D%3D; Arrow Part Number: TPS54531DDAR; Arrow Price/Stock: https://www.arrow.com/en/products/tps54531ddar/texas-instruments?utm_currency=USD&region=nac
footprint SOIC127P600X175-8N
pins: 1 BOOT, 2 VIN, 3 EN, 4 SS, 5 VSENSE, 6 COMP, 7 GND, 8 PH, 9

## UCD0J102MNL1GS
designator C?, comment 1000uF 6.3V
Capacitor Polarised; Manufacturer_Name: Nichicon; Manufacturer_Part_Number: UCD0J102MNL1GS; Datasheet Link: https://www.nichicon.co.jp/english/products/pdfs/e-ucd.pdf; Height: 10.5mm; Mouser Part Number: 647-UCD0J102MNL1GS; Mouser Price/Stock: https://www.mouser.co.uk/ProductDetail/Nichicon/UCD0J102MNL1GS?qs=c0uEScvPYN2yS0opD8R0vQ%3D%3D; Arrow Part Number: UCD0J102MNL1GS; Arrow Price/Stock: https://www.arrow.com/en/products/ucd0j102mnl1gs/nichicon
footprint CAPAE830X1050N (Footprint not found)
pins: 1 +, 2 -

## USB4120-03-C
designator J?
Connector; Manufacturer_Name: GCT (GLOBAL CONNECTOR TECHNOLOGY); Datasheet Link: https://gct.co/connector/usb4120; Height: 6.75mm; Manufacturer_Part_Number: USB4120-03-C; Mouser Part Number: 640-USB4120-03-C; Mouser Price/Stock: https://www.mouser.co.uk/ProductDetail/GCT/USB4120-03-C?qs=KUoIvG%2F9IlZaAd13sVDhkQ%3D%3D
footprint USB412003C
pins: A1 GND_1, A4 VBUS_1, A6 DP1, A7 DN1, A9 VBUS_2, A12 GND_2, B1 GND_3, B4 VBUS_3, B6 DP2, B7 DN2, B9 VBUS_4, B12 GND_4, MH1, MH2, MH3, MH4

## VS-60EPU04-N3
designator D?, comment 400V 60A
Diode; Manufacturer_Name: Vishay; Manufacturer_Part_Number: VS-60EPU04-N3; Datasheet Link: https://www.vishay.com/docs/94022/vs-60epu04-n3.pdf; Height: 5.31mm
footprint TO1092P531X1558X2499-2P (Footprint not found)
pins: 1 K, 2 A

## XT30PW-F
designator J?
Socket; DC supply; XT30; female; PIN: 2; on PCBs; THT; yellow; 15A; MF: amass; SnapEDA_Link: https://www.snapeda.com/parts/XT30PW-F/AMASS/view-part/?ref=snap; Package: None; Value: *; MP: XT30PW-F; Check_prices: https://www.snapeda.com/parts/XT30PW-F/AMASS/view-part/?ref=eda
footprint AMASS_XT30PW-F
pins: N (power), P (power)

## XT30UPB-F
designator J?
Connector; Manufacturer_Name: Amass; Manufacturer_Part_Number: XT30UPB-F; Datasheet Link: https://www.tme.eu/Document/81f11ca924696756331f21b972812074/XT30PB-F.pdf; Height: 9.4mm
footprint XT30UPBF
pins: 1 P, 2 N

## XT60PB-F
designator J?
Connector; ComponentLink1Description: Datasheet; ComponentLink1URL: https://www.tme.com/Document/aa7a0328674fda4109d00dc748bb5162/XT60UPB-F.pdf
footprint XT60PB-F (Connector)
pins: N, P

## XT60PB-M
designator J?
Connector; ComponentLink1Description: Datasheet; ComponentLink1URL: https://www.tme.com/Document/ceb306d6300f4d2860483975b79af125/XT60UPB-M.pdf
footprint XT60PB-M (Connector)
pins: N, P

## XT60PW-F
designator J?
Socket DC Supply Connector Female; MF: AMASS; SnapEDA_Link: https://www.snapeda.com/parts/XT60PW-F/AMASS/view-part/?ref=snap; Package: Package; Availability: Not in stock; Price: None; Check_prices: https://www.snapeda.com/parts/XT60PW-F/AMASS/view-part/?ref=eda; MP: XT60PW-F; Value: *
footprint AMASS_XT60PW-F
pins: 1, 2, S1 SHIELD, S2 SHIELD

## XT60PW-M
designator J?
Socket, DC supply, male, PIN: 2; MF: AMASS; Check_prices: https://www.snapeda.com/parts/XT60PW-M/AMASS/view-part/?ref=eda; SnapEDA_Link: https://www.snapeda.com/parts/XT60PW-M/AMASS/view-part/?ref=snap; Price: None; Availability: Not in stock; Package: Package; MP: XT60PW-M; Value: *
footprint AMASS_XT60PW-M
pins: 1 POS, 2 NEG